# Altium footprint library TTNNODE_V3.PcbLib: 21 footprints (part 2 of 2)
Each footprint in its own frame and in the unit in brackets; x right, y up, seen from the top. Pads: shape width x height; smd on the part's side, far side on the other; paste and mask are expansions set on the pad; w line width, h text height; cw(c..) or ccw(c..) is an arc to the next point about the centre after c.
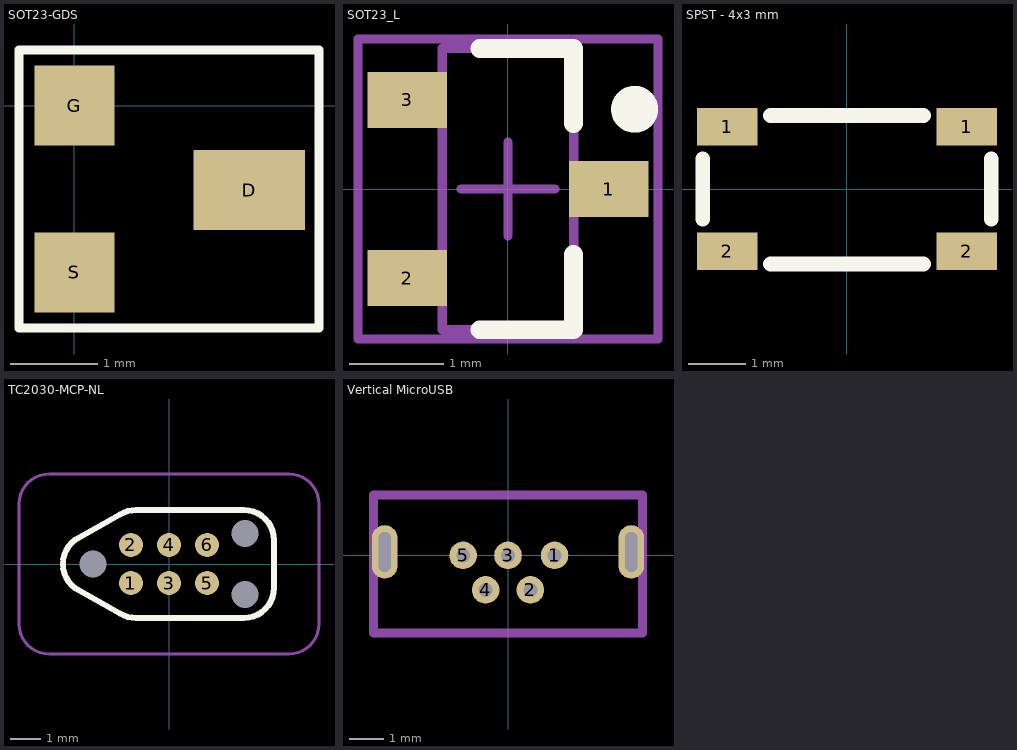
[diagram p1: the footprints below, top view; thin cyan lines are the x and y axes]

## SOT23-GDS [mil]
pads (3):
  rect 50x36 smd: D(78.74,-38)
  rect 36x36 smd: G(0,0) S(0,-75)
Top Overlay:
  lines w4: -24.88,11.02 -24.88,12.02 ; -24.88,15.02 -24.88,25.02 ; -10.88,25.02 -8.88,25.02 ; -9.88,25.02 -24.88,25.02 ; -24.88,25.02 -24.88,-99.98 110.12,-99.98 110.12,25.02 -24.88,25.02
3D body "SW3dPS-3-lead sot23-3.STEP": height 40.59, standoff 0.43, extent -3.48,-95 94,19.96

## SOT23_L [mm] "SOT23, 3-Leads, Body 2.9x1.3mm, Pitch 0.95mm, Lead Span 2.3mm - Reverse Pinning, IPC High Density"
height 1.1
pads (3):
  rect 0.85x0.6 smd: 1(1.075,0) 2(-1.075,-0.95) 3(-1.075,0.95)
Top Overlay:
  circle w0.25: c1.35,0.85 r0.125
  lines w0.2: -0.3,-1.5 0.7,-1.5 0.7,-0.7 ; -0.3,1.5 0.7,1.5 0.7,0.7
Mechanical 13:
  lines w0.1: -0.7,-1.5 0.7,-1.5 0.7,1.5 -0.7,1.5 -0.7,-1.5
Mechanical 15:
  lines w0.1: -0.5,0 0.5,0 ; 0,-0.5 0,0.5 ; -1.6,-1.6 1.6,-1.6 1.6,1.6 -1.6,1.6 -1.6,-1.6
3D body: height 1.1, standoff 0, extent -0.7,-1.5 0.7,1.5

## SPST - 4x3 mm [mm] "PTS810 SJM 250 SMTR LFS"
height 2.5
pads (4):
  rect 1.05x0.65 smd: 1(-2.075,1.075) 1(2.075,1.075) 2(-2.075,-1.075) 2(2.075,-1.075)
Top Overlay:
  lines w0.254: -2.5,-0.525 -2.5,0.525 ; -1.325,-1.3 1.325,-1.3 ; -1.325,1.275 1.325,1.275 ; 2.5,-0.525 2.5,0.525
3D body: height 2.5, standoff 1.8, extent -1.091,-1.098 1.1,1.098
3D body: height 1.8, standoff 0, extent -2.3,-1.4 2.3,1.4

## TC2030-MCP-NL [mm] "Conector ICD en placa"
height 8
pads (9):
  round 0.8 smd paste-0.4: 1(-1.27,-0.635) 2(-1.27,0.635) 3(0,-0.635) 4(0,0.635) 5(1.27,-0.635) 6(1.27,0.635)
  round 0.85 hole 0.9 unplated mask+0: ""(-2.54,0) ""(2.54,-1.016) ""(2.54,1.016)
Top Overlay:
  lines w0.2: -3.111,-0.816 cw(c-2.544,0) -3.111,0.816 -1.63,1.648 cw(c-1.1,0.8) -1.1,1.8 2.5,1.8 cw(c2.5,0.8) 3.5,0.8 3.5,-0.8 cw(c2.5,-0.8) 2.5,-1.8 -1.1,-1.8 cw(c-1.1,-0.8) -1.63,-1.648 -3.111,-0.816
Mechanical 15:
  lines w0.1: -5,-2 ccw(c-4,-2) -4,-3 4,-3 ccw(c4,-2) 5,-2 5,2 ccw(c4,2) 4,3 -4,3 ccw(c-4,2) -5,2 -5,-2
3D body: height 0, standoff 0, extent -3.539,-1.801 3.501,1.801

## Vertical MicroUSB [mm] "GCT vertical throughole usb: Farnell: 1080990"
pads (7):
  round 0.8 hole 0.4: 1(1.35,0) 2(0.65,-1) 3(0,0) 4(-0.65,-1) 5(-1.3,0)
  oval 0.75x1.55 hole 0.35 slot 1.15 at 90 deg: ""(-3.575,0.1) ""(3.575,0.1)
Mechanical 1:
  lines w0.254: -3.901,-2.25 3.901,-2.25 3.901,1.75 -3.901,1.75 -3.901,-2.25
3D body "USB3145-30-1-X_revB.step": height 6.5, standoff -2.3, extent -3.901,-2.25 3.901,1.75